# EAGLE library part 10129382-912002BLF (library 10129382-912002BLF)
Connector Header Through Hole, Right Angle 12 position 0.100" (2.54mm) Source: Datasheet <https://cdn.amphenol-cs.com/media/wysiwyg/files/drawing/10129382.pdf>
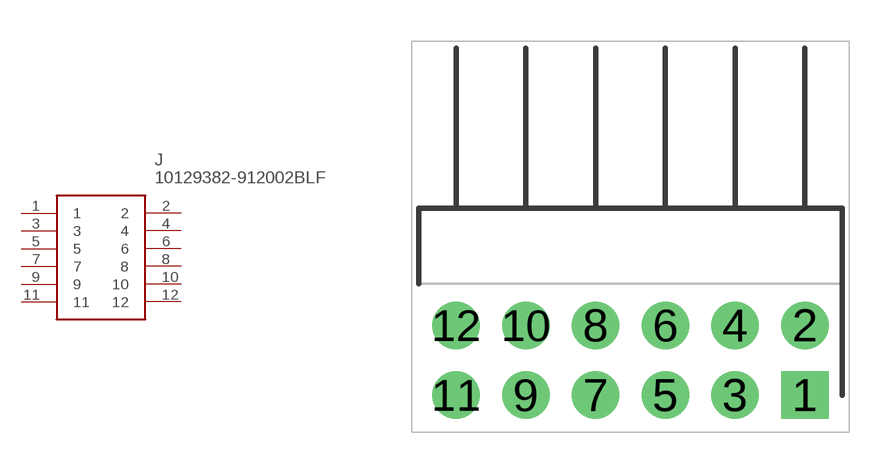
[diagram p0: symbol with the pads of HDRRA12W67P254_2X6_1524X254X50; footprint HDRRA12W67P254_2X6_1524X254X50]

Designator prefix J

## 10129382-912002BLF (Description: Connector Header Through Hole, Right Angle 12 position 0.100" (2.54mm); Height: 5.03mm; Manufacturer_Name: Amphenol; Manufacturer_Part_Number: 10129382-912002BLF)  [HDRRA12W67P254_2X6_1524X254X50]
1  1
2  2
3  3
4  4
5  5
6  6
7  7
8  8
9  9
10  10
11  11
12  12

## Footprint HDRRA12W67P254_2X6_1524X254X50 (pad centres in mm)
10129382-912002BLF
drill 1.15 pad 1.725 square: 1 0,0
drill 1.15 pad 1.725: 2 0,2.54; 3 -2.54,0; 4 -2.54,2.54; 5 -5.08,0; 6 -5.08,2.54; 7 -7.62,0; 8 -7.62,2.54; 9 -10.16,0; 10 -10.16,2.54; 11 -12.7,0; 12 -12.7,2.54